# EAGLE library part MICROSD_BARE (library connector)
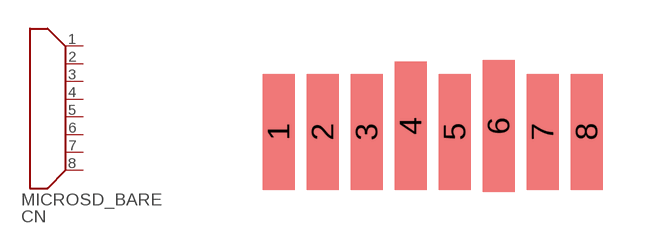
[diagram p4: symbol with the pads of MICROSD; footprint MICROSD]

Designator prefix CN

## MICROSD_BARE  [MICROSD]
1  P$1  pas
2  P$2  pas
3  P$3  pas
4  P$4  pas
5  P$5  pas
6  P$6  pas
7  P$7  pas
8  P$8  pas

## Footprint MICROSD (pad centres in mm)
smd 0.8 x 2.9: 1 0,0; 2 1.1,0; 3 2.2,0; 5 4.4,0; 7 6.6,0; 8 7.7,0
smd 0.8 x 3.2: 4 3.3,0.15
smd 0.8 x 3.3: 6 5.5,0.15